# Altium footprint library OLED 0.96inch I2C didplay.PcbLib: 1 footprints
Each footprint in its own frame and in the unit in brackets; x right, y up, seen from the top. Pads: shape width x height; smd on the part's side, far side on the other; paste and mask are expansions set on the pad; w line width, h text height; cw(c..) or ccw(c..) is an arc to the next point about the centre after c.
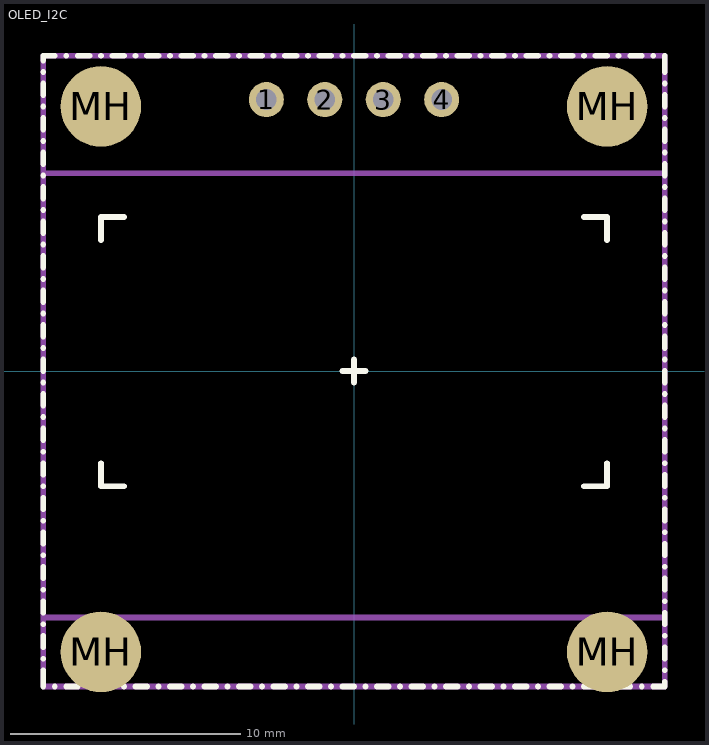
[diagram p0: the footprint, top view; thin cyan lines are the x and y axes]

## OLED_I2C [mm] "0.96'' OLED I2C"
height 3.5
pads (8):
  round 1.524 hole 0.9: 1(-3.81,11.8) 2(-1.27,11.8) 3(1.27,11.8) 4(3.81,11.8)
  round 3.5 smd: MH(-11,-12.2) MH(-11,11.5) MH(11,-12.2) MH(11,11.5)
Top Overlay:
  drawing of 156 lines, arcs and shapes, not listed
Mechanical 1:
  circle w0.254: c-3.81,11.8 r0.3
  circle w0.254: c-1.27,11.8 r0.3
  circle w0.254: c1.27,11.8 r0.3
  circle w0.254: c3.81,11.8 r0.3
  lines w0.254: -13.5,-10.7 13.5,-10.7 ; -13.5,-9.5 -13.5,9.5 ; -13.5,8.6 13.5,8.6 ; 13.5,-9.5 13.5,9.5 ; -13.5,-13.7 13.5,-13.7 13.5,13.7 -13.5,13.7 -13.5,-13.7
3D body: height 2, standoff 0, extent 3.511,11.501 4.109,12.099
3D body: height 2, standoff 0, extent 0.971,11.501 1.569,12.099
3D body: height 2, standoff 0, extent -1.569,11.501 -0.971,12.099
3D body: height 2, standoff 0, extent -4.109,11.501 -3.511,12.099
3D body: height 2.5, standoff 1, extent -13.499,-10.7 13.499,8.6
3D body: height 1.8, standoff 0, extent -13.5,-13.7 13.5,13.7
3D body: height 2.55, standoff 1, extent -11,-5 11,6.7